# EAGLE library part TFT_LCD (library P442)
1.8 inch TFT LCD Module
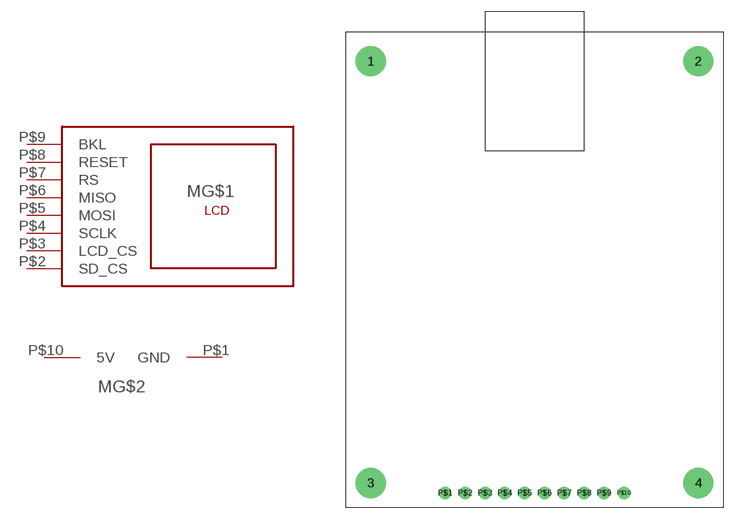
[diagram p0: symbol with the pads of TFT_LCD; footprint TFT_LCD]

Designator prefix M; gates G$1=TFT-LCD G$2=5V_GND

## TFT_LCD  [TFT_LCD]
P$1  G$2:GND  pwr
P$2  G$1:SD_CS
P$3  G$1:LCD_CS
P$4  G$1:SCLK
P$5  G$1:MOSI
P$6  G$1:MISO
P$7  G$1:RS
P$8  G$1:RESET
P$9  G$1:BKL
P$10  G$2:5V  pwr

## Footprint TFT_LCD (pad centres in mm)
1.8 inch TFT LCD Module
drill 2.845: 1 -20.955,55.88; 2 20.955,55.88; 3 -20.955,1.905; 4 20.955,1.905
drill 1.067: P$1 -11.43,0.635; P$2 -8.89,0.635; P$3 -6.35,0.635; P$4 -3.81,0.635; P$5 -1.27,0.635; P$6 1.27,0.635; P$7 3.81,0.635; P$8 6.35,0.635; P$9 8.89,0.635; P$10 11.43,0.635